# EAGLE library part PSOC4XX7_BLE (library eric-custom)
PSOC4xx7BLE bluetooth microcontroller with 4 on-board op amps
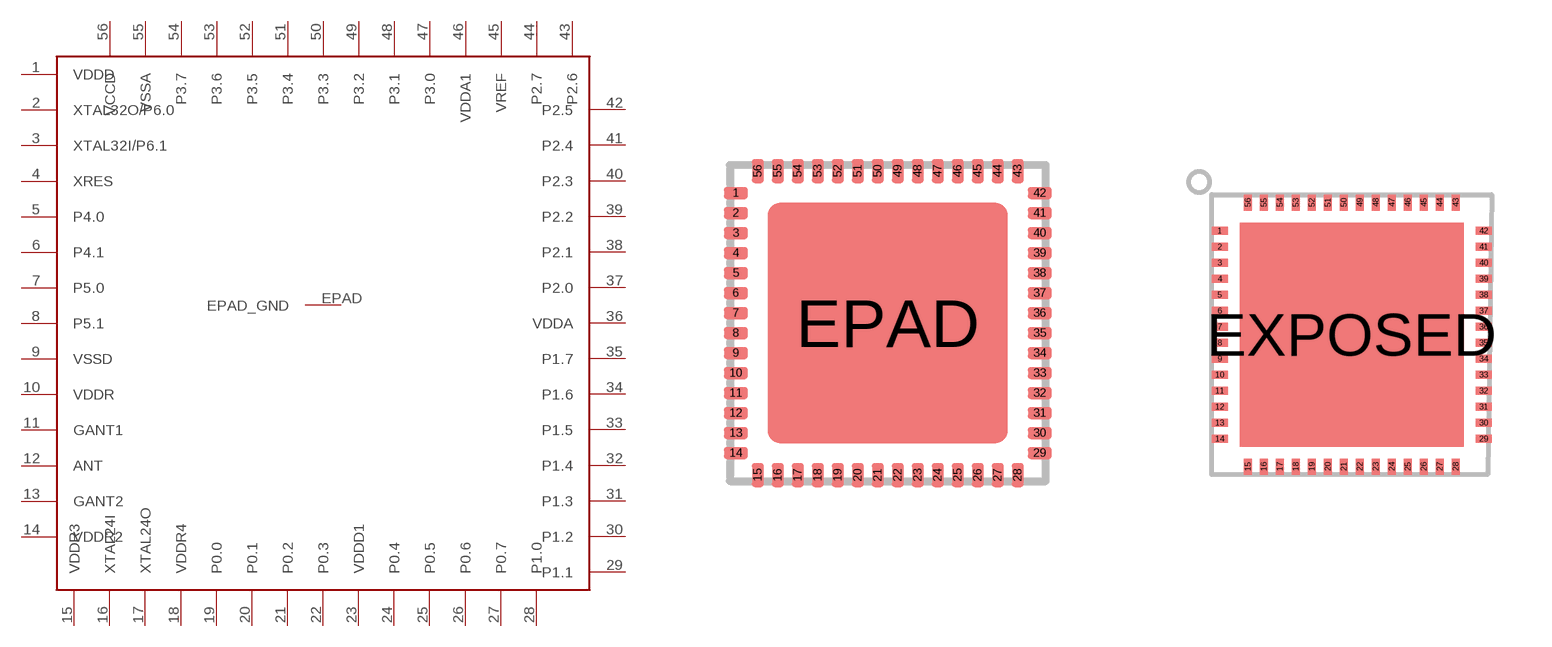
[diagram p12: symbol with the pads of QFN56; footprints QFN56, 56-UFQFN]

Designator prefix -

## PSOC4XX7_BLEOLD  [QFN56]
1  VDDD
2  XTAL32O/P6.0
3  XTAL32I/P6.1
4  XRES
5  P4.0
6  P4.1
7  P5.0
8  P5.1
9  VSSD
10  VDDR
11  GANT1
12  ANT
13  GANT2
14  VDDR2
15  VDDR3
16  XTAL24I
17  XTAL24O
18  VDDR4
19  P0.0
20  P0.1
21  P0.2
22  P0.3
23  VDDD1
24  P0.4
25  P0.5
26  P0.6
27  P0.7
28  P1.0
29  P1.1
30  P1.2
31  P1.3
32  P1.4
33  P1.5
34  P1.6
35  P1.7
36  VDDA
37  P2.0
38  P2.1
39  P2.2
40  P2.3
41  P2.4
42  P2.5
43  P2.6
44  P2.7
45  VREF
46  VDDA1
47  P3.0
48  P3.1
49  P3.2
50  P3.3
51  P3.4
52  P3.5
53  P3.6
54  P3.7
55  VSSA
56  VCCD
EPAD  EPAD_GND

## PSOC4XX7_BLE  [56-UFQFN]
1  VDDD
2  XTAL32O/P6.0
3  XTAL32I/P6.1
4  XRES
5  P4.0
6  P4.1
7  P5.0
8  P5.1
9  VSSD
10  VDDR
11  GANT1
12  ANT
13  GANT2
14  VDDR2
15  VDDR3
16  XTAL24I
17  XTAL24O
18  VDDR4
19  P0.0
20  P0.1
21  P0.2
22  P0.3
23  VDDD1
24  P0.4
25  P0.5
26  P0.6
27  P0.7
28  P1.0
29  P1.1
30  P1.2
31  P1.3
32  P1.4
33  P1.5
34  P1.6
35  P1.7
36  VDDA
37  P2.0
38  P2.1
39  P2.2
40  P2.3
41  P2.4
42  P2.5
43  P2.6
44  P2.7
45  VREF
46  VDDA1
47  P3.0
48  P3.1
49  P3.2
50  P3.3
51  P3.4
52  P3.5
53  P3.6
54  P3.7
55  VSSA
56  VCCD
EXPOSED  EPAD_GND

## Footprint QFN56 (pad centres in mm)
56-Lead QFN 8 x 8 mm LF56A Source: Source: http://www.cypress.com .. cy7c68013a_5.pdf
smd 0.6 x 0.3: 1 -3.8,3.25; 2 -3.8,2.75; 3 -3.8,2.25; 4 -3.8,1.75; 5 -3.8,1.25; 6 -3.8,0.75; 7 -3.8,0.25; 8 -3.8,-0.25; 9 -3.8,-0.75; 10 -3.8,-1.25; 11 -3.8,-1.75; 12 -3.8,-2.25; 13 -3.8,-2.75; 14 -3.8,-3.25; 29 3.8,-3.25; 30 3.8,-2.75; 31 3.8,-2.25; 32 3.8,-1.75; 33 3.8,-1.25; 34 3.8,-0.75; 35 3.8,-0.25; 36 3.8,0.25; 37 3.8,0.75; 38 3.8,1.25; 39 3.8,1.75; 40 3.8,2.25; 41 3.8,2.75; 42 3.8,3.25
smd 0.3 x 0.6: 15 -3.25,-3.8; 16 -2.75,-3.8; 17 -2.25,-3.8; 18 -1.75,-3.8; 19 -1.25,-3.8; 20 -0.75,-3.8; 21 -0.25,-3.8; 22 0.25,-3.8; 23 0.75,-3.8; 24 1.25,-3.8; 25 1.75,-3.8; 26 2.25,-3.8; 27 2.75,-3.8; 28 3.25,-3.8; 43 3.25,3.8; 44 2.75,3.8; 45 2.25,3.8; 46 1.75,3.8; 47 1.25,3.8; 48 0.75,3.8; 49 0.25,3.8; 50 -0.25,3.8; 51 -0.75,3.8; 52 -1.25,3.8; 53 -1.75,3.8; 54 -2.25,3.8; 55 -2.75,3.8; 56 -3.25,3.8
smd 6 x 6: EPAD 0,0

## Footprint 56-UFQFN (pad centres in mm)
smd 0.4 x 0.2: 1 -3.3,2.6; 2 -3.3,2.2; 3 -3.3,1.8; 4 -3.3,1.4; 5 -3.3,1; 6 -3.3,0.6; 7 -3.3,0.2; 8 -3.3,-0.2; 9 -3.3,-0.6; 10 -3.3,-1; 11 -3.3,-1.4; 12 -3.3,-1.8; 13 -3.3,-2.2; 14 -3.3,-2.6; 29 3.3,-2.6; 30 3.3,-2.2; 31 3.3,-1.8; 32 3.3,-1.4; 33 3.3,-1; 34 3.3,-0.6; 35 3.3,-0.2; 36 3.3,0.2; 37 3.3,0.6; 38 3.3,1; 39 3.3,1.4; 40 3.3,1.8; 41 3.3,2.2; 42 3.3,2.6
smd 0.2 x 0.4: 15 -2.6,-3.3; 16 -2.2,-3.3; 17 -1.8,-3.3; 18 -1.4,-3.3; 19 -1,-3.3; 20 -0.6,-3.3; 21 -0.2,-3.3; 22 0.2,-3.3; 23 0.6,-3.3; 24 1,-3.3; 25 1.4,-3.3; 26 1.8,-3.3; 27 2.2,-3.3; 28 2.6,-3.3; 43 2.6,3.3; 44 2.2,3.3; 45 1.8,3.3; 46 1.4,3.3; 47 1,3.3; 48 0.6,3.3; 49 0.2,3.3; 50 -0.2,3.3; 51 -0.6,3.3; 52 -1,3.3; 53 -1.4,3.3; 54 -1.8,3.3; 55 -2.2,3.3; 56 -2.6,3.3
smd 5.6 x 5.6: EXPOSED 0,0